# EAGLE library part 557785-1 (library 000001)
AMP connector
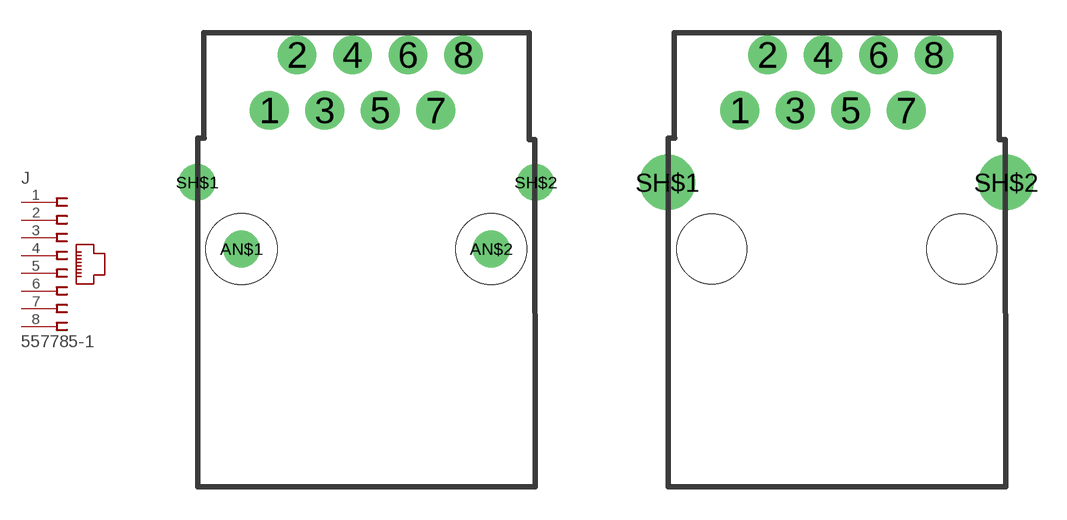
[diagram p38: symbol with the pads of 557785-1; footprints 557785-1, 557785-1_PCB]

Designator prefix J

## 557785-1  [557785-1]
1  RD+  pas
2  RD-  pas
3  RCT  pas
4  TCT  pas
5  TD+  pas
6  TD-  pas
7  SHD  pas
8  8  pas

## 557785-1557785-1_PCB  [557785-1_PCB]
Pads as for 557785-1

## 557785-1K  [1-1705961-1]

## Footprint 557785-1 (pad centres in mm)
Modular Jack
drill 0.5 pad 1.778 round: 1 -4.445,6.35; 2 -3.175,8.89; 3 -1.905,6.35; 4 -0.635,8.89; 5 0.635,6.35; 6 1.905,8.89; 7 3.175,6.35; 8 4.445,8.89
drill 0.8 pad 1.676 round: AN$1 -5.715,0; AN$2 5.715,0
drill 0.5 pad 1.676 round: SH$1 -7.747,3.048; SH$2 7.747,3.048
hole 3.251 at -5.715,0
hole 3.251 at 5.715,0

## Footprint 557785-1_PCB (pad centres in mm)
drill 0.8 pad 1.778 round: 1 -4.445,6.35; 2 -3.175,8.89; 3 -1.905,6.35; 4 -0.635,8.89; 5 0.635,6.35; 6 1.905,8.89; 7 3.175,6.35; 8 4.445,8.89
drill 1.6 pad 2.54 round: SH$1 -7.747,3.048; SH$2 7.747,3.048
hole 3.2 at -5.715,0
hole 3.2 at 5.715,0

## Footprint 1-1705961-1 (pad centres in mm)
drill 0.5 pad 1.778 round: 1 -4.445,6.35; 2 -3.175,8.89; 3 -1.905,6.35; 4 -0.635,8.89; 5 0.635,6.35; 6 1.905,8.89; 7 3.175,6.35; 8 4.445,8.89
drill 0.8 pad 1.676 round: AN$1 -5.715,0; AN$2 5.715,0
hole 3.251 at -5.715,0
hole 3.251 at 5.715,0